# Altium footprint library MH2X7_2mm_BORDE.PcbLib: 1 footprints
Each footprint in its own frame and in the unit in brackets; x right, y up, seen from the top. Pads: shape width x height; smd on the part's side, far side on the other; paste and mask are expansions set on the pad; w line width, h text height; cw(c..) or ccw(c..) is an arc to the next point about the centre after c.
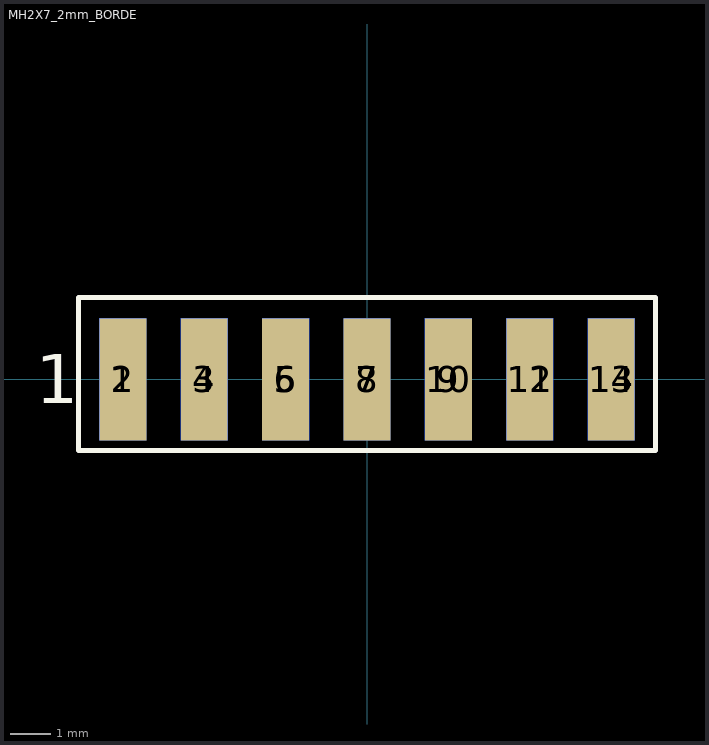
[diagram p0: the footprint, top view; thin cyan lines are the x and y axes]

## MH2X7_2mm_BORDE [mm]
pads (14):
  rect 1.15x3 smd: 1(-6,0) 3(-4,0) 5(-2,0) 7(0,0) 9(2,0) 11(4,0) 13(6,0)
  rect 1.15x3 smd far side: 2(-6,0) 4(-4,0) 6(-2,0) 8(0,0) 10(2,0) 12(4,0) 14(6,0)
Top Overlay:
  lines w0.127: -7.091,-1.753 7.091,-1.753 7.091,2.014 -7.091,2.014 -7.091,-1.753
  text "1" at -8.139,-0.594 h1.2
Bottom Overlay:
  lines w0.127: -7.091,-1.753 7.091,-1.753 7.091,2.014 -7.091,2.014 -7.091,-1.753
  text "2" at -7.479,-0.594 h1.2
3D body "pin_header_a-sl200-dg-g14d.stp": height 1.15, standoff -2.85, extent -7.001,-7.854 6.899,0.946